# Altium schematic symbol library 6.25uStabilizer.SchLib: 1 symbol
Pins are listed as number, name and electrical type; pins without a type are passive.

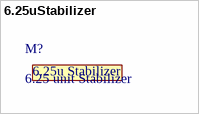
[diagram p0: symbol 6.25uStabilizer]

## 6.25uStabilizer
designator M?, comment 6.25 unit Stabilizer
footprint 6.25uStabilizer
text: 6.25u Stabilizer